# Altium footprint library Connector_PinSocket_2.54mm.PcbLib: 278 footprints (part 4 of 18)
Each footprint in its own frame and in the unit in brackets; x right, y up, seen from the top. Pads: shape width x height; smd on the part's side, far side on the other; paste and mask are expansions set on the pad; w line width, h text height; cw(c..) or ccw(c..) is an arc to the next point about the centre after c.
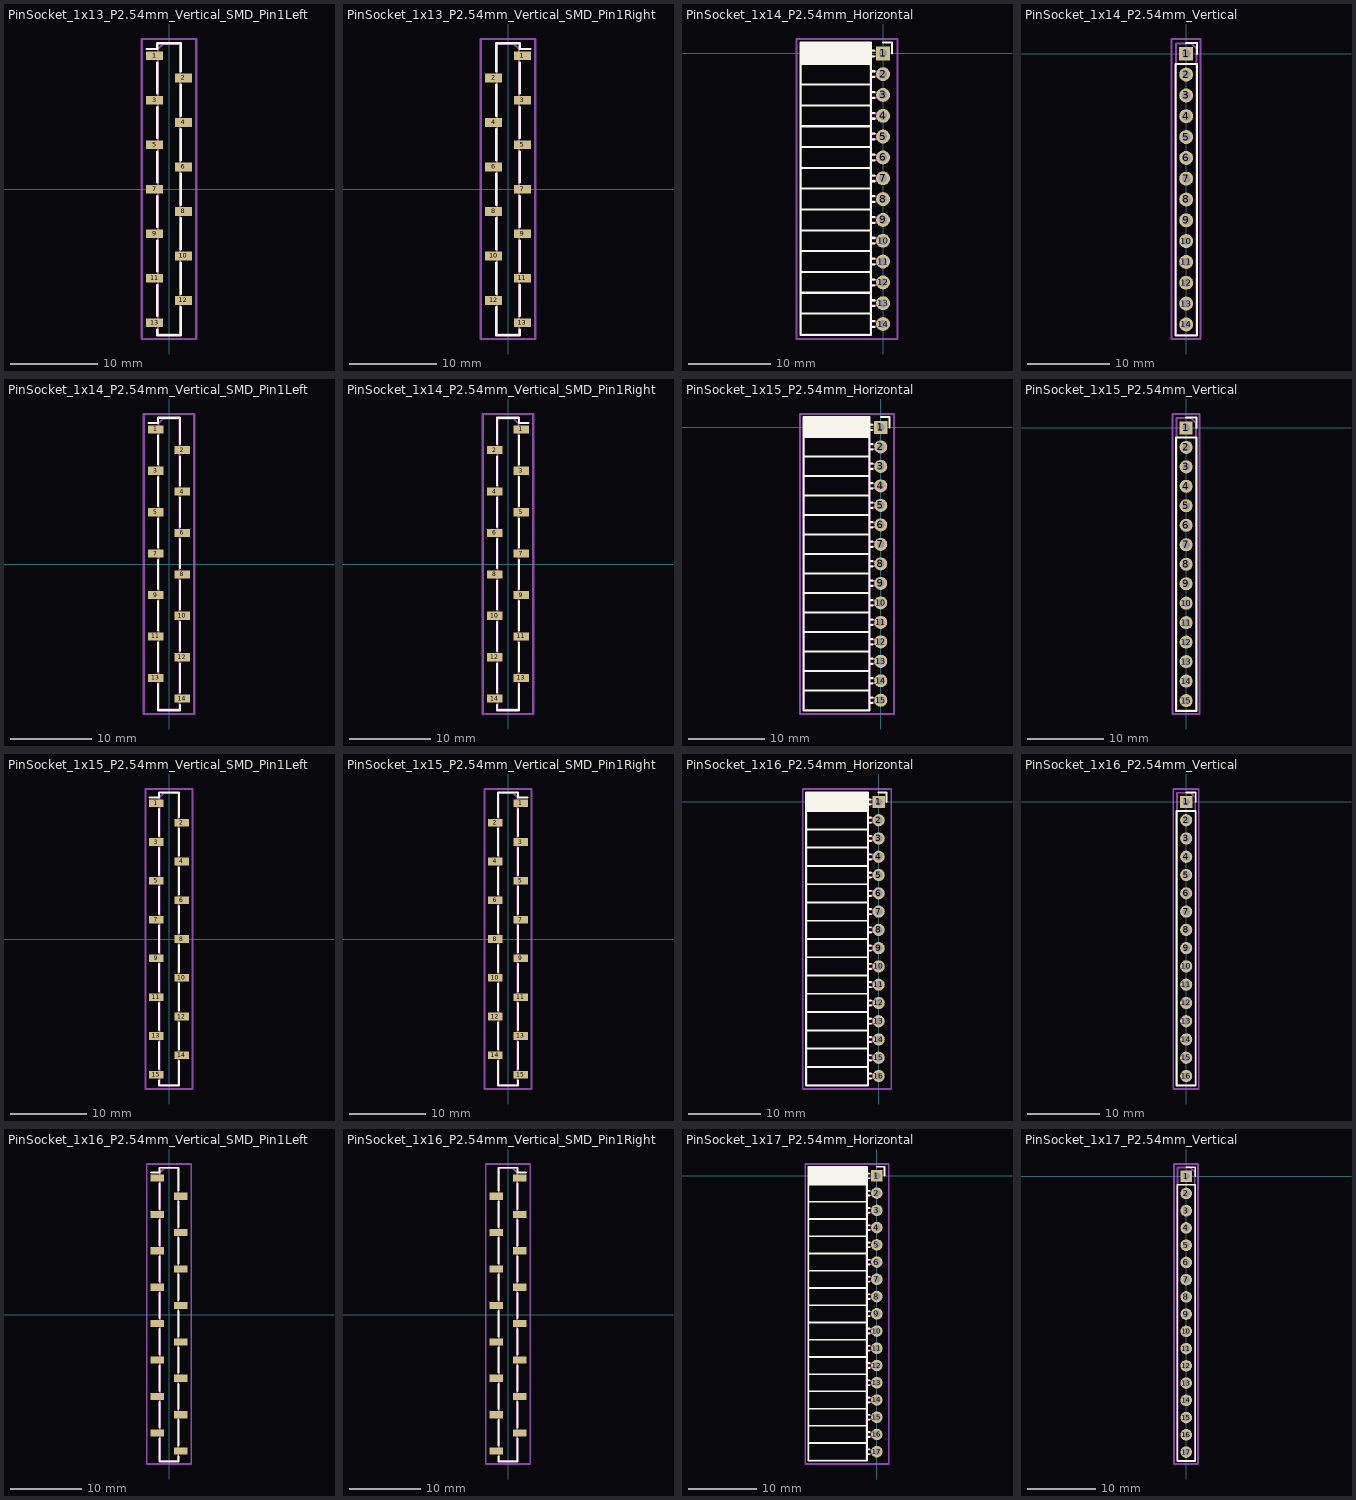
[diagram p3: the footprints below, top view; thin cyan lines are the x and y axes]

## PinSocket_1x13_P2.54mm_Vertical_SMD_Pin1Left [mm]
pads (13):
  rect 1.9x1 smd: 1(-1.65,15.24) 2(1.65,12.7) 3(-1.65,10.16) 4(1.65,7.62) 5(-1.65,5.08) 6(1.65,2.54) 7(-1.65,0) 8(1.65,-2.54) 9(-1.65,-5.08) 10(1.65,-7.62) 11(-1.65,-10.16) 12(1.65,-12.7) 13(-1.65,-15.24)
F.SilkS:
  lines w0.254: -2.54,16 -1.33,16 -1.33,16.67 1.33,16.67 1.33,13.46 ; -1.33,-16 -1.33,-16.67 1.33,-16.67 1.33,-13.46 ; -1.33,-14.48 -1.33,-10.92 ; -1.33,-9.4 -1.33,-5.84 ; -1.33,-4.32 -1.33,-0.76 ; -1.33,0.76 -1.33,4.32 ; -1.33,5.84 -1.33,9.4 ; -1.33,10.92 -1.33,14.48 ; 1.33,-11.94 1.33,-8.38 ; 1.33,-6.86 1.33,-3.3 ; 1.33,-1.78 1.33,1.78 ; 1.33,3.3 1.33,6.86 ; 1.33,8.38 1.33,11.94
Top Assembly:
  lines w0.254: -1.27,-15.54 -2.27,-15.54 -2.27,-14.94 -1.27,-14.94 ; -1.27,-10.46 -2.27,-10.46 -2.27,-9.86 -1.27,-9.86 ; -1.27,-5.38 -2.27,-5.38 -2.27,-4.78 -1.27,-4.78 ; -1.27,-0.3 -2.27,-0.3 -2.27,0.3 -1.27,0.3 ; -1.27,4.78 -2.27,4.78 -2.27,5.38 -1.27,5.38 ; -1.27,9.86 -2.27,9.86 -2.27,10.46 -1.27,10.46 ; -1.27,14.94 -2.27,14.94 -2.27,15.54 -1.27,15.54 ; 1.27,-13 2.27,-13 2.27,-12.4 1.27,-12.4 ; 1.27,-7.92 2.27,-7.92 2.27,-7.32 1.27,-7.32 ; 1.27,-2.84 2.27,-2.84 2.27,-2.24 1.27,-2.24 ; 1.27,2.24 2.27,2.24 2.27,2.84 1.27,2.84 ; 1.27,7.32 2.27,7.32 2.27,7.92 1.27,7.92 ; 1.27,12.4 2.27,12.4 2.27,13 1.27,13 ; -1.27,-16.61 1.27,-16.61 1.27,16.61 -0.635,16.61 -1.27,15.975 -1.27,-16.61
  text "'.Designator'" at 0.84,-4.047 h1
Top Courtyard:
  lines w0.254: -3.1,-17.1 3.1,-17.1 3.1,17.15 -3.1,17.15 -3.1,-17.1
Top Designator:
  text ".Designator" at -7.618,-0.483 h1.52

## PinSocket_1x13_P2.54mm_Vertical_SMD_Pin1Right [mm]
pads (13):
  rect 1.9x1 smd: 1(1.65,15.24) 2(-1.65,12.7) 3(1.65,10.16) 4(-1.65,7.62) 5(1.65,5.08) 6(-1.65,2.54) 7(1.65,0) 8(-1.65,-2.54) 9(1.65,-5.08) 10(-1.65,-7.62) 11(1.65,-10.16) 12(-1.65,-12.7) 13(1.65,-15.24)
F.SilkS:
  lines w0.254: -1.33,-13.46 -1.33,-16.67 1.33,-16.67 1.33,-16 ; -1.33,-11.94 -1.33,-8.38 ; -1.33,-6.86 -1.33,-3.3 ; -1.33,-1.78 -1.33,1.78 ; -1.33,3.3 -1.33,6.86 ; -1.33,8.38 -1.33,11.94 ; -1.33,13.46 -1.33,16.67 1.33,16.67 1.33,16 2.54,16 ; 1.33,-14.48 1.33,-10.92 ; 1.33,-9.4 1.33,-5.84 ; 1.33,-4.32 1.33,-0.76 ; 1.33,0.76 1.33,4.32 ; 1.33,5.84 1.33,9.4 ; 1.33,10.92 1.33,14.48
Top Assembly:
  lines w0.254: -1.27,-13 -2.27,-13 -2.27,-12.4 -1.27,-12.4 ; -1.27,-7.92 -2.27,-7.92 -2.27,-7.32 -1.27,-7.32 ; -1.27,-2.84 -2.27,-2.84 -2.27,-2.24 -1.27,-2.24 ; -1.27,2.24 -2.27,2.24 -2.27,2.84 -1.27,2.84 ; -1.27,7.32 -2.27,7.32 -2.27,7.92 -1.27,7.92 ; -1.27,12.4 -2.27,12.4 -2.27,13 -1.27,13 ; 1.27,-15.54 2.27,-15.54 2.27,-14.94 1.27,-14.94 ; 1.27,-10.46 2.27,-10.46 2.27,-9.86 1.27,-9.86 ; 1.27,-5.38 2.27,-5.38 2.27,-4.78 1.27,-4.78 ; 1.27,-0.3 2.27,-0.3 2.27,0.3 1.27,0.3 ; 1.27,4.78 2.27,4.78 2.27,5.38 1.27,5.38 ; 1.27,9.86 2.27,9.86 2.27,10.46 1.27,10.46 ; 1.27,14.94 2.27,14.94 2.27,15.54 1.27,15.54 ; -1.27,-16.61 1.27,-16.61 1.27,15.975 0.635,16.61 -1.27,16.61 -1.27,-16.61
  text "'.Designator'" at 0.84,-4.047 h1
Top Courtyard:
  lines w0.254: -3.1,-17.1 3.1,-17.1 3.1,17.15 -3.1,17.15 -3.1,-17.1
Top Designator:
  text ".Designator" at -7.618,-0.483 h1.52

## PinSocket_1x14_P2.54mm_Horizontal [mm]
pads (14):
  rect 1.7x1.7 hole 1: 1(0,0)
  round 1.7 hole 1: 2(0,-2.54) 3(0,-5.08) 4(0,-7.62) 5(0,-10.16) 6(0,-12.7) 7(0,-15.24) 8(0,-17.78) 9(0,-20.32) 10(0,-22.86) 11(0,-25.4) 12(0,-27.94) 13(0,-30.48) 14(0,-33.02)
F.SilkS:
  lines w0.254: -10.09,-31.75 -1.46,-31.75 ; -10.09,-29.21 -1.46,-29.21 ; -10.09,-26.67 -1.46,-26.67 ; -10.09,-24.13 -1.46,-24.13 ; -10.09,-21.59 -1.46,-21.59 ; -10.09,-19.05 -1.46,-19.05 ; -10.09,-16.51 -1.46,-16.51 ; -10.09,-13.97 -1.46,-13.97 ; -10.09,-11.43 -1.46,-11.43 ; -10.09,-8.89 -1.46,-8.89 ; -10.09,-6.35 -1.46,-6.35 ; -10.09,-3.81 -1.46,-3.81 ; -10.09,-1.27 -1.46,-1.27 ; -10.09,-1.152 -1.46,-1.152 ; -10.09,-1.034 -1.46,-1.034 ; -10.09,-0.916 -1.46,-0.916 ; -10.09,-0.798 -1.46,-0.798 ; -10.09,-0.68 -1.46,-0.68 ; -10.09,-0.561 -1.46,-0.561 ; -10.09,-0.443 -1.46,-0.443 ; -10.09,-0.325 -1.46,-0.325 ; -10.09,-0.207 -1.46,-0.207 ; -10.09,-0.089 -1.46,-0.089 ; -10.09,0.029 -1.46,0.029 ; -10.09,0.147 -1.46,0.147 ; -10.09,0.265 -1.46,0.265 ; -10.09,0.383 -1.46,0.383 ; -10.09,0.501 -1.46,0.501 ; -10.09,0.62 -1.46,0.62 ; -10.09,0.738 -1.46,0.738 ; -10.09,0.856 -1.46,0.856 ; -10.09,0.974 -1.46,0.974 ; -10.09,1.092 -1.46,1.092 ; -10.09,1.21 -1.46,1.21 ; -1.46,-33.38 -1.05,-33.38 ; -1.46,-32.66 -1.05,-32.66 ; -1.46,-30.84 -1.05,-30.84 ; -1.46,-30.12 -1.05,-30.12 ; -1.46,-28.3 -1.05,-28.3 ; -1.46,-27.58 -1.05,-27.58 ; -1.46,-25.76 -1.05,-25.76 ; -1.46,-25.04 -1.05,-25.04 ; -1.46,-23.22 -1.05,-23.22 ; -1.46,-22.5 -1.05,-22.5 ; -1.46,-20.68 -1.05,-20.68 ; -1.46,-19.96 -1.05,-19.96 ; -1.46,-18.14 -1.05,-18.14 ; -1.46,-17.42 -1.05,-17.42 ; -1.46,-15.6 -1.05,-15.6 ; -1.46,-14.88 -1.05,-14.88 ; -1.46,-13.06 -1.05,-13.06 ; -1.46,-12.34 -1.05,-12.34 ; -1.46,-10.52 -1.05,-10.52 ; -1.46,-9.8 -1.05,-9.8 ; -1.46,-7.98 -1.05,-7.98 ; -1.46,-7.26 -1.05,-7.26 ; -1.46,-5.44 -1.05,-5.44 ; -1.46,-4.72 -1.05,-4.72 ; -1.46,-2.9 -1.05,-2.9 ; -1.46,-2.18 -1.05,-2.18 ; -1.46,-0.36 -1.11,-0.36 ; -1.46,0.36 -1.11,0.36 ; 0,1.33 1.11,1.33 1.11,0 ; -10.09,-34.35 -1.46,-34.35 -1.46,1.33 -10.09,1.33 -10.09,-34.35
Top Assembly:
  lines w0.254: -1.52,-33.32 0,-33.32 0,-32.72 -1.52,-32.72 ; -1.52,-30.78 0,-30.78 0,-30.18 -1.52,-30.18 ; -1.52,-28.24 0,-28.24 0,-27.64 -1.52,-27.64 ; -1.52,-25.7 0,-25.7 0,-25.1 -1.52,-25.1 ; -1.52,-23.16 0,-23.16 0,-22.56 -1.52,-22.56 ; -1.52,-20.62 0,-20.62 0,-20.02 -1.52,-20.02 ; -1.52,-18.08 0,-18.08 0,-17.48 -1.52,-17.48 ; -1.52,-15.54 0,-15.54 0,-14.94 -1.52,-14.94 ; -1.52,-13 0,-13 0,-12.4 -1.52,-12.4 ; -1.52,-10.46 0,-10.46 0,-9.86 -1.52,-9.86 ; -1.52,-7.92 0,-7.92 0,-7.32 -1.52,-7.32 ; -1.52,-5.38 0,-5.38 0,-4.78 -1.52,-4.78 ; -1.52,-2.84 0,-2.84 0,-2.24 -1.52,-2.24 ; -1.52,-0.3 0,-0.3 0,0.3 -1.52,0.3 ; -1.52,0.3 -1.52,-34.29 -10.03,-34.29 -10.03,1.27 -2.49,1.27 -1.52,0.3
  text "'.Designator'" at -4.935,-20.557 h1
Top Courtyard:
  lines w0.254: -10.55,-34.85 1.75,-34.85 1.75,1.75 -10.55,1.75 -10.55,-34.85
Top Designator:
  text ".Designator" at -12.018,-17.058 h1.52

## PinSocket_1x14_P2.54mm_Vertical [mm]
pads (14):
  rect 1.7x1.7 hole 1: 1(0,0)
  round 1.7 hole 1: 2(0,-2.54) 3(0,-5.08) 4(0,-7.62) 5(0,-10.16) 6(0,-12.7) 7(0,-15.24) 8(0,-17.78) 9(0,-20.32) 10(0,-22.86) 11(0,-25.4) 12(0,-27.94) 13(0,-30.48) 14(0,-33.02)
F.SilkS:
  lines w0.254: 0,1.33 1.33,1.33 1.33,0 ; -1.33,-34.35 1.33,-34.35 1.33,-1.27 -1.33,-1.27 -1.33,-34.35
Top Assembly:
  lines w0.254: -1.27,-34.29 1.27,-34.29 1.27,0.635 0.635,1.27 -1.27,1.27 -1.27,-34.29
  text "'.Designator'" at 0.84,-20.557 h1
Top Courtyard:
  lines w0.254: -1.8,-34.8 1.75,-34.8 1.75,1.8 -1.8,1.8 -1.8,-34.8
Top Designator:
  text ".Designator" at -7.643,-17.008 h1.52

## PinSocket_1x14_P2.54mm_Vertical_SMD_Pin1Left [mm]
pads (14):
  rect 1.9x1 smd: 1(-1.65,16.51) 2(1.65,13.97) 3(-1.65,11.43) 4(1.65,8.89) 5(-1.65,6.35) 6(1.65,3.81) 7(-1.65,1.27) 8(1.65,-1.27) 9(-1.65,-3.81) 10(1.65,-6.35) 11(-1.65,-8.89) 12(1.65,-11.43) 13(-1.65,-13.97) 14(1.65,-16.51)
F.SilkS:
  lines w0.254: -2.54,17.27 -1.33,17.27 -1.33,17.94 1.33,17.94 1.33,14.73 ; -1.33,-14.73 -1.33,-17.94 1.33,-17.94 1.33,-17.27 ; -1.33,-13.21 -1.33,-9.65 ; -1.33,-8.13 -1.33,-4.57 ; -1.33,-3.05 -1.33,0.51 ; -1.33,2.03 -1.33,5.59 ; -1.33,7.11 -1.33,10.67 ; -1.33,12.19 -1.33,15.75 ; 1.33,-15.75 1.33,-12.19 ; 1.33,-10.67 1.33,-7.11 ; 1.33,-5.59 1.33,-2.03 ; 1.33,-0.51 1.33,3.05 ; 1.33,4.57 1.33,8.13 ; 1.33,9.65 1.33,13.21
Top Assembly:
  lines w0.254: -1.27,-14.27 -2.27,-14.27 -2.27,-13.67 -1.27,-13.67 ; -1.27,-9.19 -2.27,-9.19 -2.27,-8.59 -1.27,-8.59 ; -1.27,-4.11 -2.27,-4.11 -2.27,-3.51 -1.27,-3.51 ; -1.27,0.97 -2.27,0.97 -2.27,1.57 -1.27,1.57 ; -1.27,6.05 -2.27,6.05 -2.27,6.65 -1.27,6.65 ; -1.27,11.13 -2.27,11.13 -2.27,11.73 -1.27,11.73 ; -1.27,16.21 -2.27,16.21 -2.27,16.81 -1.27,16.81 ; 1.27,-16.81 2.27,-16.81 2.27,-16.21 1.27,-16.21 ; 1.27,-11.73 2.27,-11.73 2.27,-11.13 1.27,-11.13 ; 1.27,-6.65 2.27,-6.65 2.27,-6.05 1.27,-6.05 ; 1.27,-1.57 2.27,-1.57 2.27,-0.97 1.27,-0.97 ; 1.27,3.51 2.27,3.51 2.27,4.11 1.27,4.11 ; 1.27,8.59 2.27,8.59 2.27,9.19 1.27,9.19 ; 1.27,13.67 2.27,13.67 2.27,14.27 1.27,14.27 ; -1.27,-17.88 1.27,-17.88 1.27,17.88 -0.635,17.88 -1.27,17.245 -1.27,-17.88
  text "'.Designator'" at 0.84,-4.047 h1
Top Courtyard:
  lines w0.254: -3.1,-18.4 3.1,-18.4 3.1,18.4 -3.1,18.4 -3.1,-18.4
Top Designator:
  text ".Designator" at -7.618,-0.508 h1.52

## PinSocket_1x14_P2.54mm_Vertical_SMD_Pin1Right [mm]
pads (14):
  rect 1.9x1 smd: 1(1.65,16.51) 2(-1.65,13.97) 3(1.65,11.43) 4(-1.65,8.89) 5(1.65,6.35) 6(-1.65,3.81) 7(1.65,1.27) 8(-1.65,-1.27) 9(1.65,-3.81) 10(-1.65,-6.35) 11(1.65,-8.89) 12(-1.65,-11.43) 13(1.65,-13.97) 14(-1.65,-16.51)
F.SilkS:
  lines w0.254: -1.33,-17.27 -1.33,-17.94 1.33,-17.94 1.33,-14.73 ; -1.33,-15.75 -1.33,-12.19 ; -1.33,-10.67 -1.33,-7.11 ; -1.33,-5.59 -1.33,-2.03 ; -1.33,-0.51 -1.33,3.05 ; -1.33,4.57 -1.33,8.13 ; -1.33,9.65 -1.33,13.21 ; -1.33,14.73 -1.33,17.94 1.33,17.94 1.33,17.27 2.54,17.27 ; 1.33,-13.21 1.33,-9.65 ; 1.33,-8.13 1.33,-4.57 ; 1.33,-3.05 1.33,0.51 ; 1.33,2.03 1.33,5.59 ; 1.33,7.11 1.33,10.67 ; 1.33,12.19 1.33,15.75
Top Assembly:
  lines w0.254: -1.27,-16.81 -2.27,-16.81 -2.27,-16.21 -1.27,-16.21 ; -1.27,-11.73 -2.27,-11.73 -2.27,-11.13 -1.27,-11.13 ; -1.27,-6.65 -2.27,-6.65 -2.27,-6.05 -1.27,-6.05 ; -1.27,-1.57 -2.27,-1.57 -2.27,-0.97 -1.27,-0.97 ; -1.27,3.51 -2.27,3.51 -2.27,4.11 -1.27,4.11 ; -1.27,8.59 -2.27,8.59 -2.27,9.19 -1.27,9.19 ; -1.27,13.67 -2.27,13.67 -2.27,14.27 -1.27,14.27 ; 1.27,-14.27 2.27,-14.27 2.27,-13.67 1.27,-13.67 ; 1.27,-9.19 2.27,-9.19 2.27,-8.59 1.27,-8.59 ; 1.27,-4.11 2.27,-4.11 2.27,-3.51 1.27,-3.51 ; 1.27,0.97 2.27,0.97 2.27,1.57 1.27,1.57 ; 1.27,6.05 2.27,6.05 2.27,6.65 1.27,6.65 ; 1.27,11.13 2.27,11.13 2.27,11.73 1.27,11.73 ; 1.27,16.21 2.27,16.21 2.27,16.81 1.27,16.81 ; -1.27,-17.88 1.27,-17.88 1.27,17.245 0.635,17.88 -1.27,17.88 -1.27,-17.88
  text "'.Designator'" at 0.84,-4.047 h1
Top Courtyard:
  lines w0.254: -3.1,-18.4 3.1,-18.4 3.1,18.4 -3.1,18.4 -3.1,-18.4
Top Designator:
  text ".Designator" at -7.618,-0.508 h1.52

## PinSocket_1x15_P2.54mm_Horizontal [mm]
pads (15):
  rect 1.7x1.7 hole 1: 1(0,0)
  round 1.7 hole 1: 2(0,-2.54) 3(0,-5.08) 4(0,-7.62) 5(0,-10.16) 6(0,-12.7) 7(0,-15.24) 8(0,-17.78) 9(0,-20.32) 10(0,-22.86) 11(0,-25.4) 12(0,-27.94) 13(0,-30.48) 14(0,-33.02) 15(0,-35.56)
F.SilkS:
  lines w0.254: -10.09,-34.29 -1.46,-34.29 ; -10.09,-31.75 -1.46,-31.75 ; -10.09,-29.21 -1.46,-29.21 ; -10.09,-26.67 -1.46,-26.67 ; -10.09,-24.13 -1.46,-24.13 ; -10.09,-21.59 -1.46,-21.59 ; -10.09,-19.05 -1.46,-19.05 ; -10.09,-16.51 -1.46,-16.51 ; -10.09,-13.97 -1.46,-13.97 ; -10.09,-11.43 -1.46,-11.43 ; -10.09,-8.89 -1.46,-8.89 ; -10.09,-6.35 -1.46,-6.35 ; -10.09,-3.81 -1.46,-3.81 ; -10.09,-1.27 -1.46,-1.27 ; -10.09,-1.152 -1.46,-1.152 ; -10.09,-1.034 -1.46,-1.034 ; -10.09,-0.916 -1.46,-0.916 ; -10.09,-0.798 -1.46,-0.798 ; -10.09,-0.68 -1.46,-0.68 ; -10.09,-0.561 -1.46,-0.561 ; -10.09,-0.443 -1.46,-0.443 ; -10.09,-0.325 -1.46,-0.325 ; -10.09,-0.207 -1.46,-0.207 ; -10.09,-0.089 -1.46,-0.089 ; -10.09,0.029 -1.46,0.029 ; -10.09,0.147 -1.46,0.147 ; -10.09,0.265 -1.46,0.265 ; -10.09,0.383 -1.46,0.383 ; -10.09,0.501 -1.46,0.501 ; -10.09,0.62 -1.46,0.62 ; -10.09,0.738 -1.46,0.738 ; -10.09,0.856 -1.46,0.856 ; -10.09,0.974 -1.46,0.974 ; -10.09,1.092 -1.46,1.092 ; -10.09,1.21 -1.46,1.21 ; -1.46,-35.92 -1.05,-35.92 ; -1.46,-35.2 -1.05,-35.2 ; -1.46,-33.38 -1.05,-33.38 ; -1.46,-32.66 -1.05,-32.66 ; -1.46,-30.84 -1.05,-30.84 ; -1.46,-30.12 -1.05,-30.12 ; -1.46,-28.3 -1.05,-28.3 ; -1.46,-27.58 -1.05,-27.58 ; -1.46,-25.76 -1.05,-25.76 ; -1.46,-25.04 -1.05,-25.04 ; -1.46,-23.22 -1.05,-23.22 ; -1.46,-22.5 -1.05,-22.5 ; -1.46,-20.68 -1.05,-20.68 ; -1.46,-19.96 -1.05,-19.96 ; -1.46,-18.14 -1.05,-18.14 ; -1.46,-17.42 -1.05,-17.42 ; -1.46,-15.6 -1.05,-15.6 ; -1.46,-14.88 -1.05,-14.88 ; -1.46,-13.06 -1.05,-13.06 ; -1.46,-12.34 -1.05,-12.34 ; -1.46,-10.52 -1.05,-10.52 ; -1.46,-9.8 -1.05,-9.8 ; -1.46,-7.98 -1.05,-7.98 ; -1.46,-7.26 -1.05,-7.26 ; -1.46,-5.44 -1.05,-5.44 ; -1.46,-4.72 -1.05,-4.72 ; -1.46,-2.9 -1.05,-2.9 ; -1.46,-2.18 -1.05,-2.18 ; -1.46,-0.36 -1.11,-0.36 ; -1.46,0.36 -1.11,0.36 ; 0,1.33 1.11,1.33 1.11,0 ; -10.09,-36.89 -1.46,-36.89 -1.46,1.33 -10.09,1.33 -10.09,-36.89
Top Assembly:
  lines w0.254: -1.52,-35.86 0,-35.86 0,-35.26 -1.52,-35.26 ; -1.52,-33.32 0,-33.32 0,-32.72 -1.52,-32.72 ; -1.52,-30.78 0,-30.78 0,-30.18 -1.52,-30.18 ; -1.52,-28.24 0,-28.24 0,-27.64 -1.52,-27.64 ; -1.52,-25.7 0,-25.7 0,-25.1 -1.52,-25.1 ; -1.52,-23.16 0,-23.16 0,-22.56 -1.52,-22.56 ; -1.52,-20.62 0,-20.62 0,-20.02 -1.52,-20.02 ; -1.52,-18.08 0,-18.08 0,-17.48 -1.52,-17.48 ; -1.52,-15.54 0,-15.54 0,-14.94 -1.52,-14.94 ; -1.52,-13 0,-13 0,-12.4 -1.52,-12.4 ; -1.52,-10.46 0,-10.46 0,-9.86 -1.52,-9.86 ; -1.52,-7.92 0,-7.92 0,-7.32 -1.52,-7.32 ; -1.52,-5.38 0,-5.38 0,-4.78 -1.52,-4.78 ; -1.52,-2.84 0,-2.84 0,-2.24 -1.52,-2.24 ; -1.52,-0.3 0,-0.3 0,0.3 -1.52,0.3 ; -1.52,0.3 -1.52,-36.83 -10.03,-36.83 -10.03,1.27 -2.49,1.27 -1.52,0.3
  text "'.Designator'" at -4.935,-21.827 h1
Top Courtyard:
  lines w0.254: -10.55,-37.35 1.75,-37.35 1.75,1.75 -10.55,1.75 -10.55,-37.35
Top Designator:
  text ".Designator" at -12.018,-18.308 h1.52

## PinSocket_1x15_P2.54mm_Vertical [mm]
pads (15):
  rect 1.7x1.7 hole 1: 1(0,0)
  round 1.7 hole 1: 2(0,-2.54) 3(0,-5.08) 4(0,-7.62) 5(0,-10.16) 6(0,-12.7) 7(0,-15.24) 8(0,-17.78) 9(0,-20.32) 10(0,-22.86) 11(0,-25.4) 12(0,-27.94) 13(0,-30.48) 14(0,-33.02) 15(0,-35.56)
F.SilkS:
  lines w0.254: 0,1.33 1.33,1.33 1.33,0 ; -1.33,-36.89 1.33,-36.89 1.33,-1.27 -1.33,-1.27 -1.33,-36.89
Top Assembly:
  lines w0.254: -1.27,-36.83 1.27,-36.83 1.27,0.635 0.635,1.27 -1.27,1.27 -1.27,-36.83
  text "'.Designator'" at 0.84,-21.827 h1
Top Courtyard:
  lines w0.254: -1.8,-37.3 1.75,-37.3 1.75,1.8 -1.8,1.8 -1.8,-37.3
Top Designator:
  text ".Designator" at -7.643,-18.258 h1.52

## PinSocket_1x15_P2.54mm_Vertical_SMD_Pin1Left [mm]
pads (15):
  rect 1.9x1 smd: 1(-1.65,17.78) 2(1.65,15.24) 3(-1.65,12.7) 4(1.65,10.16) 5(-1.65,7.62) 6(1.65,5.08) 7(-1.65,2.54) 8(1.65,0) 9(-1.65,-2.54) 10(1.65,-5.08) 11(-1.65,-7.62) 12(1.65,-10.16) 13(-1.65,-12.7) 14(1.65,-15.24) 15(-1.65,-17.78)
F.SilkS:
  lines w0.254: -2.54,18.54 -1.33,18.54 -1.33,19.21 1.33,19.21 1.33,16 ; -1.33,-18.54 -1.33,-19.21 1.33,-19.21 1.33,-16 ; -1.33,-17.02 -1.33,-13.46 ; -1.33,-11.94 -1.33,-8.38 ; -1.33,-6.86 -1.33,-3.3 ; -1.33,-1.78 -1.33,1.78 ; -1.33,3.3 -1.33,6.86 ; -1.33,8.38 -1.33,11.94 ; -1.33,13.46 -1.33,17.02 ; 1.33,-14.48 1.33,-10.92 ; 1.33,-9.4 1.33,-5.84 ; 1.33,-4.32 1.33,-0.76 ; 1.33,0.76 1.33,4.32 ; 1.33,5.84 1.33,9.4 ; 1.33,10.92 1.33,14.48
Top Assembly:
  lines w0.254: -1.27,-18.08 -2.27,-18.08 -2.27,-17.48 -1.27,-17.48 ; -1.27,-13 -2.27,-13 -2.27,-12.4 -1.27,-12.4 ; -1.27,-7.92 -2.27,-7.92 -2.27,-7.32 -1.27,-7.32 ; -1.27,-2.84 -2.27,-2.84 -2.27,-2.24 -1.27,-2.24 ; -1.27,2.24 -2.27,2.24 -2.27,2.84 -1.27,2.84 ; -1.27,7.32 -2.27,7.32 -2.27,7.92 -1.27,7.92 ; -1.27,12.4 -2.27,12.4 -2.27,13 -1.27,13 ; -1.27,17.48 -2.27,17.48 -2.27,18.08 -1.27,18.08 ; 1.27,-15.54 2.27,-15.54 2.27,-14.94 1.27,-14.94 ; 1.27,-10.46 2.27,-10.46 2.27,-9.86 1.27,-9.86 ; 1.27,-5.38 2.27,-5.38 2.27,-4.78 1.27,-4.78 ; 1.27,-0.3 2.27,-0.3 2.27,0.3 1.27,0.3 ; 1.27,4.78 2.27,4.78 2.27,5.38 1.27,5.38 ; 1.27,9.86 2.27,9.86 2.27,10.46 1.27,10.46 ; 1.27,14.94 2.27,14.94 2.27,15.54 1.27,15.54 ; -1.27,-19.15 1.27,-19.15 1.27,19.15 -0.635,19.15 -1.27,18.515 -1.27,-19.15
  text "'.Designator'" at 0.84,-4.047 h1
Top Courtyard:
  lines w0.254: -3.1,-19.65 3.1,-19.65 3.1,19.65 -3.1,19.65 -3.1,-19.65
Top Designator:
  text ".Designator" at -7.618,-0.508 h1.52

## PinSocket_1x15_P2.54mm_Vertical_SMD_Pin1Right [mm]
pads (15):
  rect 1.9x1 smd: 1(1.65,17.78) 2(-1.65,15.24) 3(1.65,12.7) 4(-1.65,10.16) 5(1.65,7.62) 6(-1.65,5.08) 7(1.65,2.54) 8(-1.65,0) 9(1.65,-2.54) 10(-1.65,-5.08) 11(1.65,-7.62) 12(-1.65,-10.16) 13(1.65,-12.7) 14(-1.65,-15.24) 15(1.65,-17.78)
F.SilkS:
  lines w0.254: -1.33,-16 -1.33,-19.21 1.33,-19.21 1.33,-18.54 ; -1.33,-14.48 -1.33,-10.92 ; -1.33,-9.4 -1.33,-5.84 ; -1.33,-4.32 -1.33,-0.76 ; -1.33,0.76 -1.33,4.32 ; -1.33,5.84 -1.33,9.4 ; -1.33,10.92 -1.33,14.48 ; -1.33,16 -1.33,19.21 1.33,19.21 1.33,18.54 2.54,18.54 ; 1.33,-17.02 1.33,-13.46 ; 1.33,-11.94 1.33,-8.38 ; 1.33,-6.86 1.33,-3.3 ; 1.33,-1.78 1.33,1.78 ; 1.33,3.3 1.33,6.86 ; 1.33,8.38 1.33,11.94 ; 1.33,13.46 1.33,17.02
Top Assembly:
  lines w0.254: -1.27,-15.54 -2.27,-15.54 -2.27,-14.94 -1.27,-14.94 ; -1.27,-10.46 -2.27,-10.46 -2.27,-9.86 -1.27,-9.86 ; -1.27,-5.38 -2.27,-5.38 -2.27,-4.78 -1.27,-4.78 ; -1.27,-0.3 -2.27,-0.3 -2.27,0.3 -1.27,0.3 ; -1.27,4.78 -2.27,4.78 -2.27,5.38 -1.27,5.38 ; -1.27,9.86 -2.27,9.86 -2.27,10.46 -1.27,10.46 ; -1.27,14.94 -2.27,14.94 -2.27,15.54 -1.27,15.54 ; 1.27,-18.08 2.27,-18.08 2.27,-17.48 1.27,-17.48 ; 1.27,-13 2.27,-13 2.27,-12.4 1.27,-12.4 ; 1.27,-7.92 2.27,-7.92 2.27,-7.32 1.27,-7.32 ; 1.27,-2.84 2.27,-2.84 2.27,-2.24 1.27,-2.24 ; 1.27,2.24 2.27,2.24 2.27,2.84 1.27,2.84 ; 1.27,7.32 2.27,7.32 2.27,7.92 1.27,7.92 ; 1.27,12.4 2.27,12.4 2.27,13 1.27,13 ; 1.27,17.48 2.27,17.48 2.27,18.08 1.27,18.08 ; -1.27,-19.15 1.27,-19.15 1.27,18.515 0.635,19.15 -1.27,19.15 -1.27,-19.15
  text "'.Designator'" at 0.84,-4.047 h1
Top Courtyard:
  lines w0.254: -3.1,-19.65 3.1,-19.65 3.1,19.65 -3.1,19.65 -3.1,-19.65
Top Designator:
  text ".Designator" at -7.618,-0.508 h1.52

## PinSocket_1x16_P2.54mm_Horizontal [mm]
pads (16):
  rect 1.7x1.7 hole 1: 1(0,0)
  round 1.7 hole 1: 2(0,-2.54) 3(0,-5.08) 4(0,-7.62) 5(0,-10.16) 6(0,-12.7) 7(0,-15.24) 8(0,-17.78) 9(0,-20.32) 10(0,-22.86) 11(0,-25.4) 12(0,-27.94) 13(0,-30.48) 14(0,-33.02) 15(0,-35.56) 16(0,-38.1)
F.SilkS:
  lines w0.254: -10.09,-36.83 -1.46,-36.83 ; -10.09,-34.29 -1.46,-34.29 ; -10.09,-31.75 -1.46,-31.75 ; -10.09,-29.21 -1.46,-29.21 ; -10.09,-26.67 -1.46,-26.67 ; -10.09,-24.13 -1.46,-24.13 ; -10.09,-21.59 -1.46,-21.59 ; -10.09,-19.05 -1.46,-19.05 ; -10.09,-16.51 -1.46,-16.51 ; -10.09,-13.97 -1.46,-13.97 ; -10.09,-11.43 -1.46,-11.43 ; -10.09,-8.89 -1.46,-8.89 ; -10.09,-6.35 -1.46,-6.35 ; -10.09,-3.81 -1.46,-3.81 ; -10.09,-1.27 -1.46,-1.27 ; -10.09,-1.152 -1.46,-1.152 ; -10.09,-1.034 -1.46,-1.034 ; -10.09,-0.916 -1.46,-0.916 ; -10.09,-0.798 -1.46,-0.798 ; -10.09,-0.68 -1.46,-0.68 ; -10.09,-0.561 -1.46,-0.561 ; -10.09,-0.443 -1.46,-0.443 ; -10.09,-0.325 -1.46,-0.325 ; -10.09,-0.207 -1.46,-0.207 ; -10.09,-0.089 -1.46,-0.089 ; -10.09,0.029 -1.46,0.029 ; -10.09,0.147 -1.46,0.147 ; -10.09,0.265 -1.46,0.265 ; -10.09,0.383 -1.46,0.383 ; -10.09,0.501 -1.46,0.501 ; -10.09,0.62 -1.46,0.62 ; -10.09,0.738 -1.46,0.738 ; -10.09,0.856 -1.46,0.856 ; -10.09,0.974 -1.46,0.974 ; -10.09,1.092 -1.46,1.092 ; -10.09,1.21 -1.46,1.21 ; -1.46,-38.46 -1.05,-38.46 ; -1.46,-37.74 -1.05,-37.74 ; -1.46,-35.92 -1.05,-35.92 ; -1.46,-35.2 -1.05,-35.2 ; -1.46,-33.38 -1.05,-33.38 ; -1.46,-32.66 -1.05,-32.66 ; -1.46,-30.84 -1.05,-30.84 ; -1.46,-30.12 -1.05,-30.12 ; -1.46,-28.3 -1.05,-28.3 ; -1.46,-27.58 -1.05,-27.58 ; -1.46,-25.76 -1.05,-25.76 ; -1.46,-25.04 -1.05,-25.04 ; -1.46,-23.22 -1.05,-23.22 ; -1.46,-22.5 -1.05,-22.5 ; -1.46,-20.68 -1.05,-20.68 ; -1.46,-19.96 -1.05,-19.96 ; -1.46,-18.14 -1.05,-18.14 ; -1.46,-17.42 -1.05,-17.42 ; -1.46,-15.6 -1.05,-15.6 ; -1.46,-14.88 -1.05,-14.88 ; -1.46,-13.06 -1.05,-13.06 ; -1.46,-12.34 -1.05,-12.34 ; -1.46,-10.52 -1.05,-10.52 ; -1.46,-9.8 -1.05,-9.8 ; -1.46,-7.98 -1.05,-7.98 ; -1.46,-7.26 -1.05,-7.26 ; -1.46,-5.44 -1.05,-5.44 ; -1.46,-4.72 -1.05,-4.72 ; -1.46,-2.9 -1.05,-2.9 ; -1.46,-2.18 -1.05,-2.18 ; -1.46,-0.36 -1.11,-0.36 ; -1.46,0.36 -1.11,0.36 ; 0,1.33 1.11,1.33 1.11,0 ; -10.09,-39.43 -1.46,-39.43 -1.46,1.33 -10.09,1.33 -10.09,-39.43
Top Assembly:
  lines w0.254: -1.52,-38.4 0,-38.4 0,-37.8 -1.52,-37.8 ; -1.52,-35.86 0,-35.86 0,-35.26 -1.52,-35.26 ; -1.52,-33.32 0,-33.32 0,-32.72 -1.52,-32.72 ; -1.52,-30.78 0,-30.78 0,-30.18 -1.52,-30.18 ; -1.52,-28.24 0,-28.24 0,-27.64 -1.52,-27.64 ; -1.52,-25.7 0,-25.7 0,-25.1 -1.52,-25.1 ; -1.52,-23.16 0,-23.16 0,-22.56 -1.52,-22.56 ; -1.52,-20.62 0,-20.62 0,-20.02 -1.52,-20.02 ; -1.52,-18.08 0,-18.08 0,-17.48 -1.52,-17.48 ; -1.52,-15.54 0,-15.54 0,-14.94 -1.52,-14.94 ; -1.52,-13 0,-13 0,-12.4 -1.52,-12.4 ; -1.52,-10.46 0,-10.46 0,-9.86 -1.52,-9.86 ; -1.52,-7.92 0,-7.92 0,-7.32 -1.52,-7.32 ; -1.52,-5.38 0,-5.38 0,-4.78 -1.52,-4.78 ; -1.52,-2.84 0,-2.84 0,-2.24 -1.52,-2.24 ; -1.52,-0.3 0,-0.3 0,0.3 -1.52,0.3 ; -1.52,0.3 -1.52,-39.37 -10.03,-39.37 -10.03,1.27 -2.49,1.27 -1.52,0.3
  text "'.Designator'" at -4.935,-23.097 h1
Top Courtyard:
  lines w0.254: -10.55,-39.9 1.75,-39.9 1.75,1.8 -10.55,1.8 -10.55,-39.9
Top Designator:
  text ".Designator" at -12.018,-19.558 h1.52

## PinSocket_1x16_P2.54mm_Vertical [mm]
pads (16):
  rect 1.7x1.7 hole 1: 1(0,0)
  round 1.7 hole 1: 2(0,-2.54) 3(0,-5.08) 4(0,-7.62) 5(0,-10.16) 6(0,-12.7) 7(0,-15.24) 8(0,-17.78) 9(0,-20.32) 10(0,-22.86) 11(0,-25.4) 12(0,-27.94) 13(0,-30.48) 14(0,-33.02) 15(0,-35.56) 16(0,-38.1)
F.SilkS:
  lines w0.254: 0,1.33 1.33,1.33 1.33,0 ; -1.33,-39.43 1.33,-39.43 1.33,-1.27 -1.33,-1.27 -1.33,-39.43
Top Assembly:
  lines w0.254: -1.27,-39.37 1.27,-39.37 1.27,0.635 0.635,1.27 -1.27,1.27 -1.27,-39.37
  text "'.Designator'" at 0.84,-23.097 h1
Top Courtyard:
  lines w0.254: -1.8,-39.9 1.75,-39.9 1.75,1.8 -1.8,1.8 -1.8,-39.9
Top Designator:
  text ".Designator" at -7.643,-19.558 h1.52

## PinSocket_1x16_P2.54mm_Vertical_SMD_Pin1Left [mm]
pads (16):
  rect 1.9x1 smd: 1(-1.65,19.05) 2(1.65,16.51) 3(-1.65,13.97) 4(1.65,11.43) 5(-1.65,8.89) 6(1.65,6.35) 7(-1.65,3.81) 8(1.65,1.27) 9(-1.65,-1.27) 10(1.65,-3.81) 11(-1.65,-6.35) 12(1.65,-8.89) 13(-1.65,-11.43) 14(1.65,-13.97) 15(-1.65,-16.51) 16(1.65,-19.05)
F.SilkS:
  lines w0.254: -2.54,19.81 -1.33,19.81 -1.33,20.48 1.33,20.48 1.33,17.27 ; -1.33,-17.27 -1.33,-20.48 1.33,-20.48 1.33,-19.81 ; -1.33,-15.75 -1.33,-12.19 ; -1.33,-10.67 -1.33,-7.11 ; -1.33,-5.59 -1.33,-2.03 ; -1.33,-0.51 -1.33,3.05 ; -1.33,4.57 -1.33,8.13 ; -1.33,9.65 -1.33,13.21 ; -1.33,14.73 -1.33,18.29 ; 1.33,-18.29 1.33,-14.73 ; 1.33,-13.21 1.33,-9.65 ; 1.33,-8.13 1.33,-4.57 ; 1.33,-3.05 1.33,0.51 ; 1.33,2.03 1.33,5.59 ; 1.33,7.11 1.33,10.67 ; 1.33,12.19 1.33,15.75
Top Assembly:
  lines w0.254: -1.27,-16.81 -2.27,-16.81 -2.27,-16.21 -1.27,-16.21 ; -1.27,-11.73 -2.27,-11.73 -2.27,-11.13 -1.27,-11.13 ; -1.27,-6.65 -2.27,-6.65 -2.27,-6.05 -1.27,-6.05 ; -1.27,-1.57 -2.27,-1.57 -2.27,-0.97 -1.27,-0.97 ; -1.27,3.51 -2.27,3.51 -2.27,4.11 -1.27,4.11 ; -1.27,8.59 -2.27,8.59 -2.27,9.19 -1.27,9.19 ; -1.27,13.67 -2.27,13.67 -2.27,14.27 -1.27,14.27 ; -1.27,18.75 -2.27,18.75 -2.27,19.35 -1.27,19.35 ; 1.27,-19.35 2.27,-19.35 2.27,-18.75 1.27,-18.75 ; 1.27,-14.27 2.27,-14.27 2.27,-13.67 1.27,-13.67 ; 1.27,-9.19 2.27,-9.19 2.27,-8.59 1.27,-8.59 ; 1.27,-4.11 2.27,-4.11 2.27,-3.51 1.27,-3.51 ; 1.27,0.97 2.27,0.97 2.27,1.57 1.27,1.57 ; 1.27,6.05 2.27,6.05 2.27,6.65 1.27,6.65 ; 1.27,11.13 2.27,11.13 2.27,11.73 1.27,11.73 ; 1.27,16.21 2.27,16.21 2.27,16.81 1.27,16.81 ; -1.27,-20.42 1.27,-20.42 1.27,20.42 -0.635,20.42 -1.27,19.785 -1.27,-20.42
  text "'.Designator'" at 0.84,-4.047 h1
Top Courtyard:
  lines w0.254: -3.1,-20.85 3.1,-20.85 3.1,21 -3.1,21 -3.1,-20.85
Top Designator:
  text ".Designator" at -7.618,-0.433 h1.52

## PinSocket_1x16_P2.54mm_Vertical_SMD_Pin1Right [mm]
pads (16):
  rect 1.9x1 smd: 1(1.65,19.05) 2(-1.65,16.51) 3(1.65,13.97) 4(-1.65,11.43) 5(1.65,8.89) 6(-1.65,6.35) 7(1.65,3.81) 8(-1.65,1.27) 9(1.65,-1.27) 10(-1.65,-3.81) 11(1.65,-6.35) 12(-1.65,-8.89) 13(1.65,-11.43) 14(-1.65,-13.97) 15(1.65,-16.51) 16(-1.65,-19.05)
F.SilkS:
  lines w0.254: -1.33,-19.81 -1.33,-20.48 1.33,-20.48 1.33,-17.27 ; -1.33,-18.29 -1.33,-14.73 ; -1.33,-13.21 -1.33,-9.65 ; -1.33,-8.13 -1.33,-4.57 ; -1.33,-3.05 -1.33,0.51 ; -1.33,2.03 -1.33,5.59 ; -1.33,7.11 -1.33,10.67 ; -1.33,12.19 -1.33,15.75 ; -1.33,17.27 -1.33,20.48 1.33,20.48 1.33,19.81 2.54,19.81 ; 1.33,-15.75 1.33,-12.19 ; 1.33,-10.67 1.33,-7.11 ; 1.33,-5.59 1.33,-2.03 ; 1.33,-0.51 1.33,3.05 ; 1.33,4.57 1.33,8.13 ; 1.33,9.65 1.33,13.21 ; 1.33,14.73 1.33,18.29
Top Assembly:
  lines w0.254: -1.27,-19.35 -2.27,-19.35 -2.27,-18.75 -1.27,-18.75 ; -1.27,-14.27 -2.27,-14.27 -2.27,-13.67 -1.27,-13.67 ; -1.27,-9.19 -2.27,-9.19 -2.27,-8.59 -1.27,-8.59 ; -1.27,-4.11 -2.27,-4.11 -2.27,-3.51 -1.27,-3.51 ; -1.27,0.97 -2.27,0.97 -2.27,1.57 -1.27,1.57 ; -1.27,6.05 -2.27,6.05 -2.27,6.65 -1.27,6.65 ; -1.27,11.13 -2.27,11.13 -2.27,11.73 -1.27,11.73 ; -1.27,16.21 -2.27,16.21 -2.27,16.81 -1.27,16.81 ; 1.27,-16.81 2.27,-16.81 2.27,-16.21 1.27,-16.21 ; 1.27,-11.73 2.27,-11.73 2.27,-11.13 1.27,-11.13 ; 1.27,-6.65 2.27,-6.65 2.27,-6.05 1.27,-6.05 ; 1.27,-1.57 2.27,-1.57 2.27,-0.97 1.27,-0.97 ; 1.27,3.51 2.27,3.51 2.27,4.11 1.27,4.11 ; 1.27,8.59 2.27,8.59 2.27,9.19 1.27,9.19 ; 1.27,13.67 2.27,13.67 2.27,14.27 1.27,14.27 ; 1.27,18.75 2.27,18.75 2.27,19.35 1.27,19.35 ; -1.27,-20.42 1.27,-20.42 1.27,19.785 0.635,20.42 -1.27,20.42 -1.27,-20.42
  text "'.Designator'" at 0.84,-4.047 h1
Top Courtyard:
  lines w0.254: -3.1,-20.85 3.1,-20.85 3.1,21 -3.1,21 -3.1,-20.85
Top Designator:
  text ".Designator" at -7.618,-0.433 h1.52

## PinSocket_1x17_P2.54mm_Horizontal [mm]
pads (17):
  rect 1.7x1.7 hole 1: 1(0,0)
  round 1.7 hole 1: 2(0,-2.54) 3(0,-5.08) 4(0,-7.62) 5(0,-10.16) 6(0,-12.7) 7(0,-15.24) 8(0,-17.78) 9(0,-20.32) 10(0,-22.86) 11(0,-25.4) 12(0,-27.94) 13(0,-30.48) 14(0,-33.02) 15(0,-35.56) 16(0,-38.1) 17(0,-40.64)
F.SilkS:
  lines w0.254: -10.09,-39.37 -1.46,-39.37 ; -10.09,-36.83 -1.46,-36.83 ; -10.09,-34.29 -1.46,-34.29 ; -10.09,-31.75 -1.46,-31.75 ; -10.09,-29.21 -1.46,-29.21 ; -10.09,-26.67 -1.46,-26.67 ; -10.09,-24.13 -1.46,-24.13 ; -10.09,-21.59 -1.46,-21.59 ; -10.09,-19.05 -1.46,-19.05 ; -10.09,-16.51 -1.46,-16.51 ; -10.09,-13.97 -1.46,-13.97 ; -10.09,-11.43 -1.46,-11.43 ; -10.09,-8.89 -1.46,-8.89 ; -10.09,-6.35 -1.46,-6.35 ; -10.09,-3.81 -1.46,-3.81 ; -10.09,-1.27 -1.46,-1.27 ; -10.09,-1.152 -1.46,-1.152 ; -10.09,-1.034 -1.46,-1.034 ; -10.09,-0.916 -1.46,-0.916 ; -10.09,-0.798 -1.46,-0.798 ; -10.09,-0.68 -1.46,-0.68 ; -10.09,-0.561 -1.46,-0.561 ; -10.09,-0.443 -1.46,-0.443 ; -10.09,-0.325 -1.46,-0.325 ; -10.09,-0.207 -1.46,-0.207 ; -10.09,-0.089 -1.46,-0.089 ; -10.09,0.029 -1.46,0.029 ; -10.09,0.147 -1.46,0.147 ; -10.09,0.265 -1.46,0.265 ; -10.09,0.383 -1.46,0.383 ; -10.09,0.501 -1.46,0.501 ; -10.09,0.62 -1.46,0.62 ; -10.09,0.738 -1.46,0.738 ; -10.09,0.856 -1.46,0.856 ; -10.09,0.974 -1.46,0.974 ; -10.09,1.092 -1.46,1.092 ; -10.09,1.21 -1.46,1.21 ; -1.46,-41 -1.05,-41 ; -1.46,-40.28 -1.05,-40.28 ; -1.46,-38.46 -1.05,-38.46 ; -1.46,-37.74 -1.05,-37.74 ; -1.46,-35.92 -1.05,-35.92 ; -1.46,-35.2 -1.05,-35.2 ; -1.46,-33.38 -1.05,-33.38 ; -1.46,-32.66 -1.05,-32.66 ; -1.46,-30.84 -1.05,-30.84 ; -1.46,-30.12 -1.05,-30.12 ; -1.46,-28.3 -1.05,-28.3 ; -1.46,-27.58 -1.05,-27.58 ; -1.46,-25.76 -1.05,-25.76 ; -1.46,-25.04 -1.05,-25.04 ; -1.46,-23.22 -1.05,-23.22 ; -1.46,-22.5 -1.05,-22.5 ; -1.46,-20.68 -1.05,-20.68 ; -1.46,-19.96 -1.05,-19.96 ; -1.46,-18.14 -1.05,-18.14 ; -1.46,-17.42 -1.05,-17.42 ; -1.46,-15.6 -1.05,-15.6 ; -1.46,-14.88 -1.05,-14.88 ; -1.46,-13.06 -1.05,-13.06 ; -1.46,-12.34 -1.05,-12.34 ; -1.46,-10.52 -1.05,-10.52 ; -1.46,-9.8 -1.05,-9.8 ; -1.46,-7.98 -1.05,-7.98 ; -1.46,-7.26 -1.05,-7.26 ; -1.46,-5.44 -1.05,-5.44 ; -1.46,-4.72 -1.05,-4.72 ; -1.46,-2.9 -1.05,-2.9 ; -1.46,-2.18 -1.05,-2.18 ; -1.46,-0.36 -1.11,-0.36 ; -1.46,0.36 -1.11,0.36 ; 0,1.33 1.11,1.33 1.11,0 ; -10.09,-41.97 -1.46,-41.97 -1.46,1.33 -10.09,1.33 -10.09,-41.97
Top Assembly:
  lines w0.254: -1.52,-40.94 0,-40.94 0,-40.34 -1.52,-40.34 ; -1.52,-38.4 0,-38.4 0,-37.8 -1.52,-37.8 ; -1.52,-35.86 0,-35.86 0,-35.26 -1.52,-35.26 ; -1.52,-33.32 0,-33.32 0,-32.72 -1.52,-32.72 ; -1.52,-30.78 0,-30.78 0,-30.18 -1.52,-30.18 ; -1.52,-28.24 0,-28.24 0,-27.64 -1.52,-27.64 ; -1.52,-25.7 0,-25.7 0,-25.1 -1.52,-25.1 ; -1.52,-23.16 0,-23.16 0,-22.56 -1.52,-22.56 ; -1.52,-20.62 0,-20.62 0,-20.02 -1.52,-20.02 ; -1.52,-18.08 0,-18.08 0,-17.48 -1.52,-17.48 ; -1.52,-15.54 0,-15.54 0,-14.94 -1.52,-14.94 ; -1.52,-13 0,-13 0,-12.4 -1.52,-12.4 ; -1.52,-10.46 0,-10.46 0,-9.86 -1.52,-9.86 ; -1.52,-7.92 0,-7.92 0,-7.32 -1.52,-7.32 ; -1.52,-5.38 0,-5.38 0,-4.78 -1.52,-4.78 ; -1.52,-2.84 0,-2.84 0,-2.24 -1.52,-2.24 ; -1.52,-0.3 0,-0.3 0,0.3 -1.52,0.3 ; -1.52,0.3 -1.52,-41.91 -10.03,-41.91 -10.03,1.27 -2.49,1.27 -1.52,0.3
  text "'.Designator'" at -4.935,-24.367 h1
Top Courtyard:
  lines w0.254: -10.55,-42.45 1.75,-42.45 1.75,1.75 -10.55,1.75 -10.55,-42.45
Top Designator:
  text ".Designator" at -12.018,-20.858 h1.52

## PinSocket_1x17_P2.54mm_Vertical [mm]
pads (17):
  rect 1.7x1.7 hole 1: 1(0,0)
  round 1.7 hole 1: 2(0,-2.54) 3(0,-5.08) 4(0,-7.62) 5(0,-10.16) 6(0,-12.7) 7(0,-15.24) 8(0,-17.78) 9(0,-20.32) 10(0,-22.86) 11(0,-25.4) 12(0,-27.94) 13(0,-30.48) 14(0,-33.02) 15(0,-35.56) 16(0,-38.1) 17(0,-40.64)
F.SilkS:
  lines w0.254: 0,1.33 1.33,1.33 1.33,0 ; -1.33,-41.97 1.33,-41.97 1.33,-1.27 -1.33,-1.27 -1.33,-41.97
Top Assembly:
  lines w0.254: -1.27,-41.91 1.27,-41.91 1.27,0.635 0.635,1.27 -1.27,1.27 -1.27,-41.91
  text "'.Designator'" at 0.84,-24.367 h1
Top Courtyard:
  lines w0.254: -1.8,-42.4 1.75,-42.4 1.75,1.8 -1.8,1.8 -1.8,-42.4
Top Designator:
  text ".Designator" at -7.643,-20.808 h1.52